# Altium integrated library WE-LHMI_rev15a.intlib: 116 symbols (part 2 of 2)
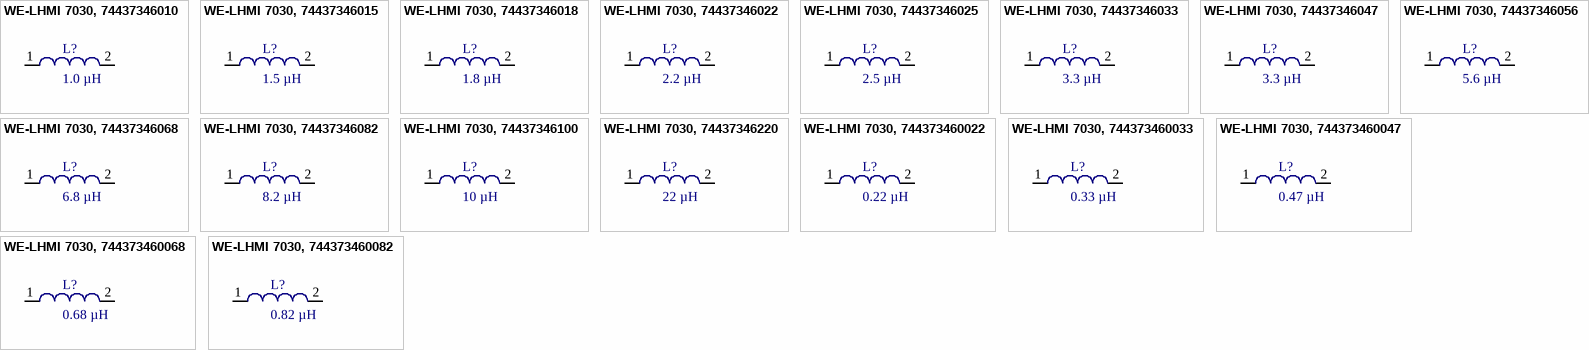
[diagram p8: symbols WE-LHMI 7030, 74437346010 to WE-LHMI 7030, 744373460082]

## WE-LHMI 7030, 744373460047
designator L?, comment 0.47 µH
SMD Power Inductor WE-LHMI, L=0.47 µH; partNo: 744373460047; Manufacturer: Würth Elektronik eiSos GmbH; Inductance: 0.47 µH; ComponentLink1Description: Manufacturer; ComponentLink1URL: http://www.we-online.de; Created by: Christin Zierenner; Created Date: May 2012; ComponentLink2Description: Datasheet; ComponentLink2URL: http://katalog.we-online.de/kataloge/eisos/media/pdf/744373460047.pdf
footprint WE-LHMI 7030 (SMD Inductor, 2- pin, Body 7.3mmx6.6mm)
pins: 1, 2

## WE-LHMI 7030, 744373460068
designator L?, comment 0.68 µH
SMD Power Inductor WE-LHMI, L=0.68 µH; partNo: 744373460068; Manufacturer: Würth Elektronik eiSos GmbH; Inductance: 0.68 µH; ComponentLink1Description: Manufacturer; ComponentLink1URL: http://www.we-online.de; Created by: Christin Zierenner; Created Date: May 2012; ComponentLink2Description: Datasheet; ComponentLink2URL: http://katalog.we-online.de/kataloge/eisos/media/pdf/744373460068.pdf
footprint WE-LHMI 7030 (SMD Inductor, 2- pin, Body 7.3mmx6.6mm)
pins: 1, 2

## WE-LHMI 7030, 744373460082
designator L?, comment 0.82 µH
SMD Power Inductor WE-LHMI, L=0.82 µH; partNo: 744373460082; Manufacturer: Würth Elektronik eiSos GmbH; Inductance: 0.82 µH; ComponentLink1Description: Manufacturer; ComponentLink1URL: http://www.we-online.de; Created by: Christin Zierenner; Created Date: May 2012; ComponentLink2Description: Datasheet; ComponentLink2URL: http://katalog.we-online.de/kataloge/eisos/media/pdf/744373460082.pdf
footprint WE-LHMI 7030 (SMD Inductor, 2- pin, Body 7.3mmx6.6mm)
pins: 1, 2


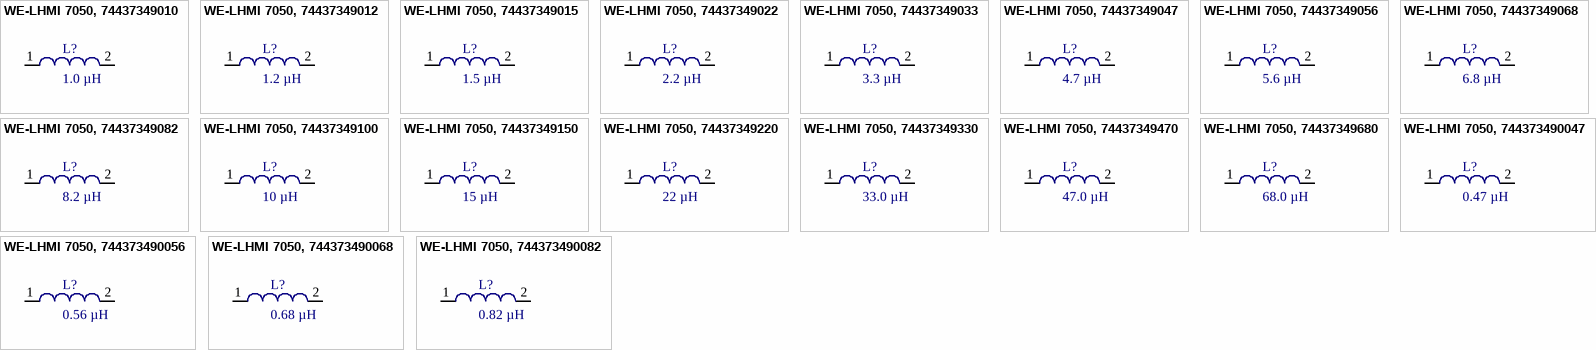
[diagram p7: symbols WE-LHMI 7050, 74437349010 to WE-LHMI 7050, 744373490082]

## WE-LHMI 7050, 74437349010
designator L?, comment 1.0 µH
SMD Power Inductor WE-LHMI, L=1.0 µH; partNo: 74437349010; Manufacturer: Würth Elektronik eiSos GmbH; Inductance: 1.0 µH; ComponentLink1Description: Manufacturer; ComponentLink1URL: http://www.we-online.de; Created by: Christin Zierenner; Created Date: May 2012; ComponentLink2Description: Datasheet; ComponentLink2URL: http://katalog.we-online.de/kataloge/eisos/media/pdf/74437349010.pdf
footprint WE-LHMI 7050 (SMD Inductor, 2- pin, Body 7.3mmx6.6mm)
pins: 1, 2

## WE-LHMI 7050, 74437349012
designator L?, comment 1.2 µH
SMD Power Inductor WE-LHMI, L=1.2 µH; partNo: 74437349012; Manufacturer: Würth Elektronik eiSos GmbH; Inductance: 1.2 µH; ComponentLink1Description: Manufacturer; ComponentLink1URL: http://www.we-online.de; Created by: Christin Zierenner; Created Date: May 2012; ComponentLink2Description: Datasheet; ComponentLink2URL: http://katalog.we-online.de/kataloge/eisos/media/pdf/74437349012.pdf
footprint WE-LHMI 7050 (SMD Inductor, 2- pin, Body 7.3mmx6.6mm)
pins: 1, 2

## WE-LHMI 7050, 74437349015
designator L?, comment 1.5 µH
SMD Power Inductor WE-LHMI, L=1.5 µH; partNo: 74437349015; Manufacturer: Würth Elektronik eiSos GmbH; Inductance: 1.5 µH; ComponentLink1Description: Manufacturer; ComponentLink1URL: http://www.we-online.de; Created by: Christin Zierenner; Created Date: May 2012; ComponentLink2Description: Datasheet; ComponentLink2URL: http://katalog.we-online.de/kataloge/eisos/media/pdf/74437349015.pdf
footprint WE-LHMI 7050 (SMD Inductor, 2- pin, Body 7.3mmx6.6mm)
pins: 1, 2

## WE-LHMI 7050, 74437349022
designator L?, comment 2.2 µH
SMD Power Inductor WE-LHMI, L=2.2 µH; partNo: 74437349022; Manufacturer: Würth Elektronik eiSos GmbH; Inductance: 2.2 µH; ComponentLink1Description: Manufacturer; ComponentLink1URL: http://www.we-online.de; Created by: Christin Zierenner; Created Date: May 2012; ComponentLink2Description: Datasheet; ComponentLink2URL: http://katalog.we-online.de/kataloge/eisos/media/pdf/74437349022.pdf
footprint WE-LHMI 7050 (SMD Inductor, 2- pin, Body 7.3mmx6.6mm)
pins: 1, 2

## WE-LHMI 7050, 74437349033
designator L?, comment 3.3 µH
SMD Power Inductor WE-LHMI, L=3.3 µH; partNo: 74437349033; Manufacturer: Würth Elektronik eiSos GmbH; Inductance: 3.3 µH; ComponentLink1Description: Manufacturer; ComponentLink1URL: http://www.we-online.de; Created by: Christin Zierenner; Created Date: May 2012; ComponentLink2Description: Datasheet; ComponentLink2URL: http://katalog.we-online.de/kataloge/eisos/media/pdf/74437349033.pdf
footprint WE-LHMI 7050 (SMD Inductor, 2- pin, Body 7.3mmx6.6mm)
pins: 1, 2

## WE-LHMI 7050, 74437349047
designator L?, comment 4.7 µH
SMD Power Inductor WE-LHMI, L=4.7 µH; partNo: 74437349047; Manufacturer: Würth Elektronik eiSos GmbH; Inductance: 4.7 µH; ComponentLink1Description: Manufacturer; ComponentLink1URL: http://www.we-online.de; Created by: Christin Zierenner; Created Date: May 2012; ComponentLink2Description: Datasheet; ComponentLink2URL: http://katalog.we-online.de/kataloge/eisos/media/pdf/74437349047.pdf
footprint WE-LHMI 7050 (SMD Inductor, 2- pin, Body 7.3mmx6.6mm)
pins: 1, 2

## WE-LHMI 7050, 74437349056
designator L?, comment 5.6 µH
SMD Power Inductor WE-LHMI, L=5.6 µH; partNo: 74437349056; Manufacturer: Würth Elektronik eiSos GmbH; Inductance: 5.6 µH; ComponentLink1Description: Manufacturer; ComponentLink1URL: http://www.we-online.de; Created by: Christin Zierenner; Created Date: May 2012; ComponentLink2Description: Datasheet; ComponentLink2URL: http://katalog.we-online.de/kataloge/eisos/media/pdf/74437349056.pdf
footprint WE-LHMI 7050 (SMD Inductor, 2- pin, Body 7.3mmx6.6mm)
pins: 1, 2

## WE-LHMI 7050, 74437349068
designator L?, comment 6.8 µH
SMD Power Inductor WE-LHMI, L=6.8 µH; partNo: 74437349068; Manufacturer: Würth Elektronik eiSos GmbH; Inductance: 6.8 µH; ComponentLink1Description: Manufacturer; ComponentLink1URL: http://www.we-online.de; Created by: Christin Zierenner; Created Date: May 2012; ComponentLink2Description: Datasheet; ComponentLink2URL: http://katalog.we-online.de/kataloge/eisos/media/pdf/74437349068.pdf
footprint WE-LHMI 7050 (SMD Inductor, 2- pin, Body 7.3mmx6.6mm)
pins: 1, 2

## WE-LHMI 7050, 74437349082
designator L?, comment 8.2 µH
SMD Power Inductor WE-LHMI, L=8.2 µH; partNo: 74437349082; Manufacturer: Würth Elektronik eiSos GmbH; Inductance: 8.2 µH; ComponentLink1Description: Manufacturer; ComponentLink1URL: http://www.we-online.de; Created by: Christin Zierenner; Created Date: May 2012; ComponentLink2Description: Datasheet; ComponentLink2URL: http://katalog.we-online.de/kataloge/eisos/media/pdf/74437349082.pdf
footprint WE-LHMI 7050 (SMD Inductor, 2- pin, Body 7.3mmx6.6mm)
pins: 1, 2

## WE-LHMI 7050, 74437349100
designator L?, comment 10 µH
SMD Power Inductor WE-LHMI, L=10 µH; partNo: 74437349100; Manufacturer: Würth Elektronik eiSos GmbH; Inductance: 10 µH; ComponentLink1Description: Manufacturer; ComponentLink1URL: http://www.we-online.de; Created by: Christin Zierenner; Created Date: May 2012; ComponentLink2Description: Datasheet; ComponentLink2URL: http://katalog.we-online.de/kataloge/eisos/media/pdf/74437349100.pdf
footprint WE-LHMI 7050 (SMD Inductor, 2- pin, Body 7.3mmx6.6mm)
pins: 1, 2

## WE-LHMI 7050, 74437349150
designator L?, comment 15 µH
SMD Power Inductor WE-LHMI, L=15 µH; partNo: 74437349150; Manufacturer: Würth Elektronik eiSos GmbH; Inductance: 15 µH; ComponentLink1Description: Manufacturer; ComponentLink1URL: http://www.we-online.de; Created by: Christin Zierenner; Created Date: May 2012; ComponentLink2Description: Datasheet; ComponentLink2URL: http://katalog.we-online.de/kataloge/eisos/media/pdf/74437349150.pdf
footprint WE-LHMI 7050 (SMD Inductor, 2- pin, Body 7.3mmx6.6mm)
pins: 1, 2

## WE-LHMI 7050, 74437349220
designator L?, comment 22 µH
SMD Power Inductor WE-LHMI, L=22 µH; partNo: 74437349220; Manufacturer: Würth Elektronik eiSos GmbH; Inductance: 22 µH; ComponentLink1Description: Manufacturer; ComponentLink1URL: http://www.we-online.de; Created by: Christin Zierenner; Created Date: May 2012; ComponentLink2Description: Datasheet; ComponentLink2URL: http://katalog.we-online.de/kataloge/eisos/media/pdf/74437349220.pdf
footprint WE-LHMI 7050 (SMD Inductor, 2- pin, Body 7.3mmx6.6mm)
pins: 1, 2

## WE-LHMI 7050, 74437349330
designator L?, comment 33.0 µH
SMD Power Inductor WE-LHMI, L=33.0 µH; partNo: 74437349330; Manufacturer: Würth Elektronik eiSos GmbH; Inductance: 33.0 µH; ComponentLink1Description: Manufacturer; ComponentLink1URL: http://www.we-online.de; Created by: Karrer Zheng; Created Date: June 2014; ComponentLink2Description: Datasheet; ComponentLink2URL: http://katalog.we-online.de/kataloge/eisos/media/pdf/74437349330.pdf
footprint WE-LHMI 7050 (SMD Inductor, 2- pin, Body 7.3mmx6.6mm)
pins: 1, 2

## WE-LHMI 7050, 74437349470
designator L?, comment 47.0 µH
SMD Power Inductor WE-LHMI, L=47.0 µH; partNo: 74437349470; Manufacturer: Würth Elektronik eiSos GmbH; Inductance: 47.0 µH; ComponentLink1Description: Manufacturer; ComponentLink1URL: http://www.we-online.de; Created by: Karrer Zheng; Created Date: June 2014; ComponentLink2Description: Datasheet; ComponentLink2URL: http://katalog.we-online.de/kataloge/eisos/media/pdf/74437349470.pdf
footprint WE-LHMI 7050 (SMD Inductor, 2- pin, Body 7.3mmx6.6mm)
pins: 1, 2

## WE-LHMI 7050, 74437349680
designator L?, comment 68.0 µH
SMD Power Inductor WE-LHMI, L=68.0 µH; partNo: 74437349680; Manufacturer: Würth Elektronik eiSos GmbH; Inductance: 68.0 µH; ComponentLink1Description: Manufacturer; ComponentLink1URL: http://www.we-online.de; Created by: Karrer Zheng; Created Date: June 2014; ComponentLink2Description: Datasheet; ComponentLink2URL: http://katalog.we-online.de/kataloge/eisos/media/pdf/74437349680.pdf
footprint WE-LHMI 7050 (SMD Inductor, 2- pin, Body 7.3mmx6.6mm)
pins: 1, 2

## WE-LHMI 7050, 744373490047
designator L?, comment 0.47 µH
SMD Power Inductor WE-LHMI, L=0.47 µH; partNo: 744373490047; Manufacturer: Würth Elektronik eiSos GmbH; Inductance: 0.47 µH; ComponentLink1Description: Manufacturer; ComponentLink1URL: http://www.we-online.de; Created by: Christin Zierenner; Created Date: May 2012; ComponentLink2Description: Datasheet; ComponentLink2URL: http://katalog.we-online.de/kataloge/eisos/media/pdf/744373490047.pdf
footprint WE-LHMI 7050 (SMD Inductor, 2- pin, Body 7.3mmx6.6mm)
pins: 1, 2

## WE-LHMI 7050, 744373490056
designator L?, comment 0.56 µH
SMD Power Inductor WE-LHMI, L=0.56 µH; partNo: 744373490056; Manufacturer: Würth Elektronik eiSos GmbH; Inductance: 0.56 µH; ComponentLink1Description: Manufacturer; ComponentLink1URL: http://www.we-online.de; Created by: Christin Zierenner; Created Date: May 2012; ComponentLink2Description: Datasheet; ComponentLink2URL: http://katalog.we-online.de/kataloge/eisos/media/pdf/744373490056.pdf
footprint WE-LHMI 7050 (SMD Inductor, 2- pin, Body 7.3mmx6.6mm)
pins: 1, 2

## WE-LHMI 7050, 744373490068
designator L?, comment 0.68 µH
SMD Power Inductor WE-LHMI, L=0.68 µH; partNo: 744373490068; Manufacturer: Würth Elektronik eiSos GmbH; Inductance: 0.68 µH; ComponentLink1Description: Manufacturer; ComponentLink1URL: http://www.we-online.de; Created by: Christin Zierenner; Created Date: May 2012; ComponentLink2Description: Datasheet; ComponentLink2URL: http://katalog.we-online.de/kataloge/eisos/media/pdf/744373490068.pdf
footprint WE-LHMI 7050 (SMD Inductor, 2- pin, Body 7.3mmx6.6mm)
pins: 1, 2

## WE-LHMI 7050, 744373490082
designator L?, comment 0.82 µH
SMD Power Inductor WE-LHMI, L=0.82 µH; partNo: 744373490082; Manufacturer: Würth Elektronik eiSos GmbH; Inductance: 0.82 µH; ComponentLink1Description: Manufacturer; ComponentLink1URL: http://www.we-online.de; Created by: Christin Zierenner; Created Date: May 2012; ComponentLink2Description: Datasheet; ComponentLink2URL: http://katalog.we-online.de/kataloge/eisos/media/pdf/744373490082.pdf
footprint WE-LHMI 7050 (SMD Inductor, 2- pin, Body 7.3mmx6.6mm)
pins: 1, 2